# Altium footprint library Capacitor.PcbLib: 27 footprints (part 1 of 2)
Each footprint in its own frame and in the unit in brackets; x right, y up, seen from the top. Pads: shape width x height; smd on the part's side, far side on the other; paste and mask are expansions set on the pad; w line width, h text height; cw(c..) or ccw(c..) is an arc to the next point about the centre after c.
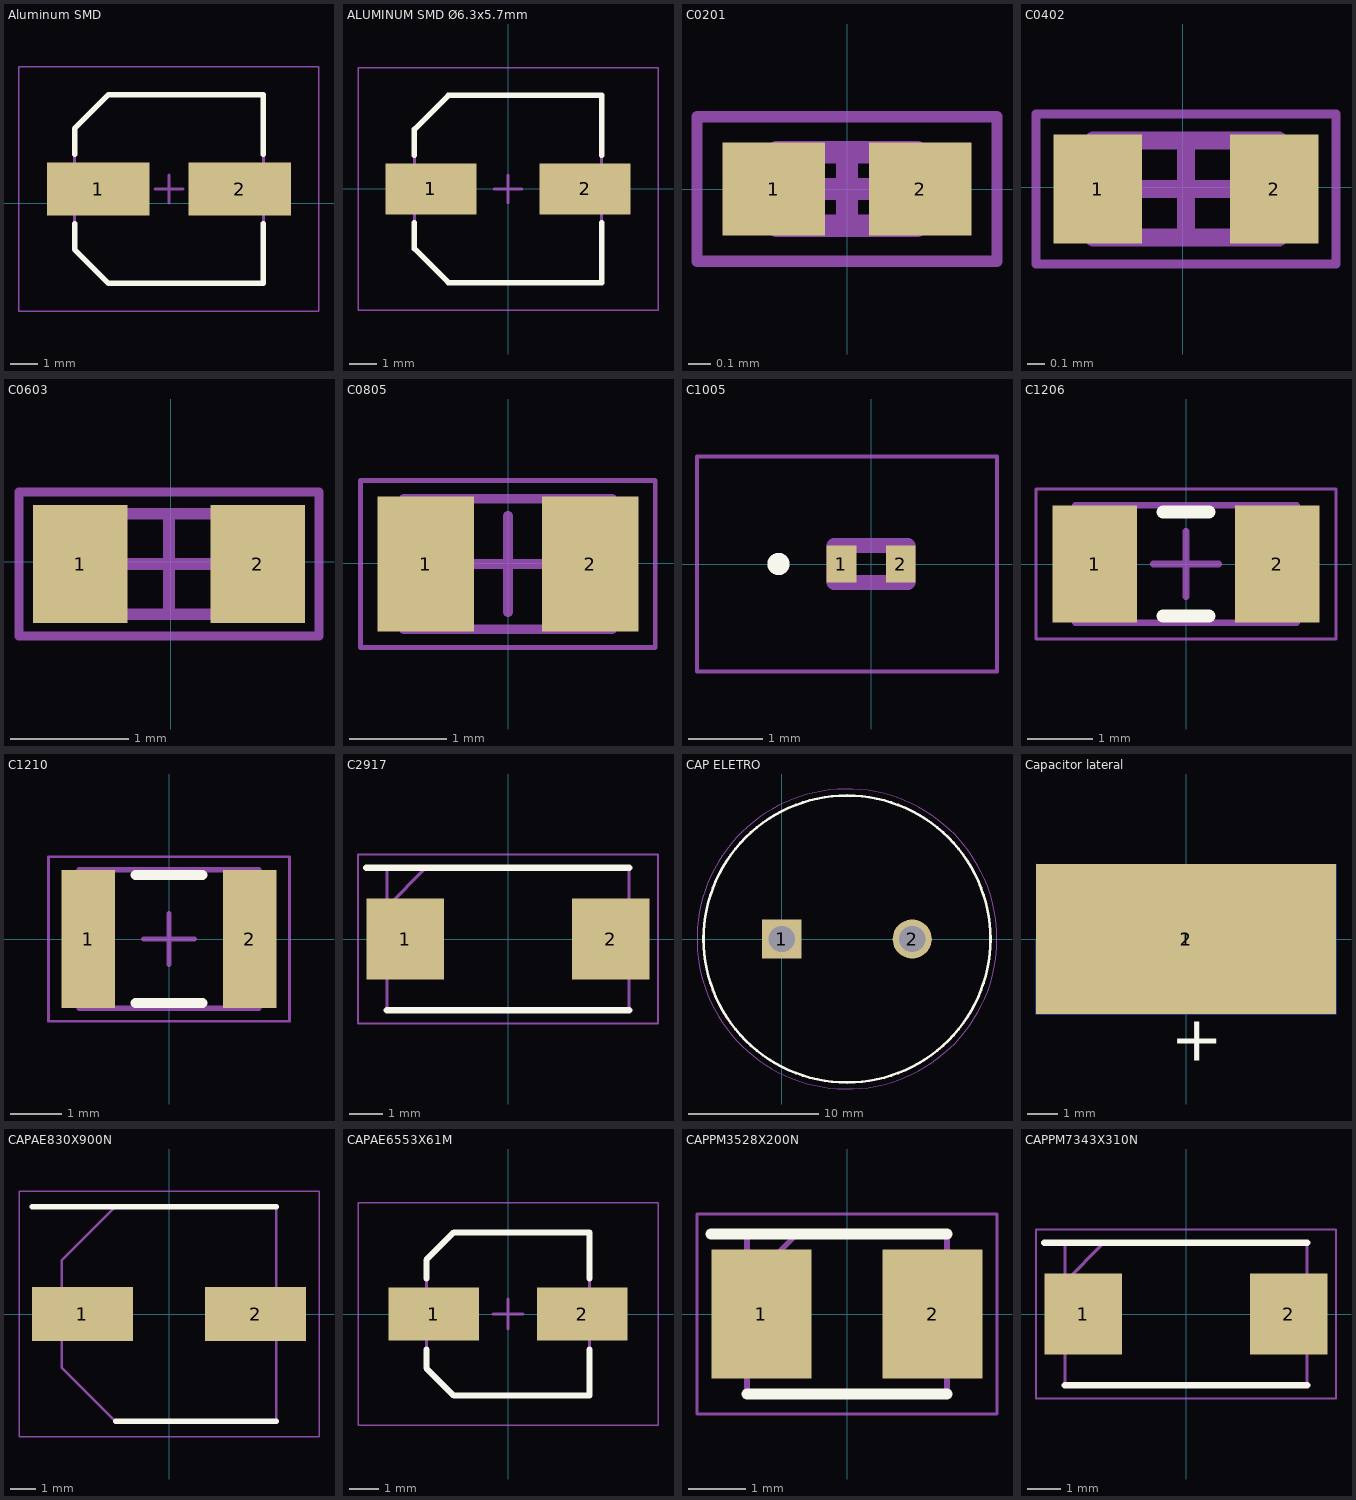
[diagram p0: the footprints below, top view; thin cyan lines are the x and y axes]

## Aluminum SMD [mm]
pads (2):
  rect 3.7x1.9 smd: 1(-208.925,0.508) 2(-203.825,0.508)
Top Overlay:
  lines w0.2: -209.775,-0.742 -209.775,-1.667 -208.55,-2.892 -202.975,-2.892 -202.975,-0.742 ; -209.775,1.758 -209.775,2.683 -208.55,3.908 -202.975,3.908 -202.975,1.758
Mechanical 13:
  lines w0.1: -209.775,-1.667 -208.55,-2.892 -202.975,-2.892 -202.975,3.908 -208.55,3.908 -209.775,2.683 -209.775,-1.667
Mechanical 15:
  lines w0.05: -211.775,-3.892 -211.775,4.908 -200.975,4.908 -200.975,-3.892 -211.775,-3.892
  lines w0.1: -206.875,0.508 -205.875,0.508 ; -206.375,0.008 -206.375,1.008
3D body "CAPAE7266X61M.step": height 6.1, standoff -0.1, extent -209.975,-2.892 -202.775,3.908

## ALUMINUM SMD Ø6.3x5.7mm [mm] "Aluminum Electrolytic Capacitor, Body 6,70x6,70x5,80mm, IPC Low Density"
height 5.8
pads (2):
  rect 3.3x1.85 smd: 1(-2.8,0) 2(2.8,0)
Top Overlay:
  lines w0.2: -3.4,-1.225 -3.4,-2.163 -2.163,-3.4 3.4,-3.4 3.4,-1.225 ; -3.4,1.225 -3.4,2.163 -2.163,3.4 3.4,3.4 3.4,1.225
Mechanical 13:
  lines w0.1: -3.4,-2.163 -3.4,2.163 -2.163,3.4 3.4,3.4 3.4,-3.4 -2.163,-3.4 -3.4,-2.163
Mechanical 15:
  lines w0.05: -5.45,-4.4 5.45,-4.4 5.45,4.4 -5.45,4.4 -5.45,-4.4
  lines w0.1: -0.5,0 0.5,0 ; 0,-0.5 0,0.5
3D body "CAPAE7367X58M.step": height 5.8, standoff -0.4, extent -3.65,-3.4 3.65,3.4

## C0201 [mm]
height 0.33
pads (2):
  rect 0.46x0.42 smd: 1(-0.33,0) 2(0.33,0)
Mechanical 13:
  lines w0.1: -0.315,-0.165 0.315,-0.165 0.315,0.165 -0.315,0.165 -0.315,-0.165
Mechanical 15:
  lines w0.05: -0.675,-0.325 0.675,-0.325 0.675,0.325 -0.675,0.325 -0.675,-0.325
  lines w0.1: -0.165,0 0.165,0 ; 0,-0.165 0,0.165
3D body "C0201.step": height 0.33, standoff 0, extent -0.315,-0.165 0.315,0.165

## C0402 [mm]
pads (2):
  rect 0.5x0.62 smd: 1(-0.483,-0.01) 2(0.517,-0.01)
Mechanical 13:
  lines w0.1: -0.508,-0.285 -0.508,0.265 0.542,0.265 0.542,-0.285 -0.508,-0.285
Mechanical 15:
  lines w0.05: -0.833,-0.435 -0.833,0.415 0.867,0.415 0.867,-0.435 -0.833,-0.435
  lines w0.1: -0.258,-0.01 0.292,-0.01 ; 0.017,-0.285 0.017,0.265
3D body "Chip2PinSM127P600-8N.step": height 0.37, standoff 0, extent -0.508,-0.285 0.542,0.265

## C0603 [mm]
pads (2):
  rect 0.8x1 smd: 1(-0.763,-0.018) 2(0.737,-0.018)
Mechanical 13:
  lines w0.1: -0.788,-0.443 0.762,-0.443 0.762,0.407 -0.788,0.407 -0.788,-0.443
Mechanical 15:
  lines w0.08: 1.232,-0.628 -1.283,-0.628 -1.283,0.592 1.232,0.592 ; 1.257,-0.628 1.257,0.592
  lines w0.1: -0.438,-0.018 0.412,-0.018 ; -0.013,-0.443 -0.013,0.407
3D body "Capacitor 0603.step": height 0.8, standoff 0, extent -0.863,-0.486 0.837,0.414

## C0805 [mm]
pads (2):
  rect 1x1.4 smd: 1(-0.85,-0.008) 2(0.85,-0.008)
Mechanical 13:
  lines w0.1: -1.075,-0.683 -1.075,0.667 1.075,0.667 1.075,-0.683 -1.075,-0.683
Mechanical 15:
  lines w0.05: -1.524,-0.872 -1.524,0.856 1.522,0.856 1.522,0.467 1.522,-0.483 1.522,-0.872 0.761,-0.872 -0.762,-0.872 -1.524,-0.872
  lines w0.1: -0.5,-0.008 0.5,-0.008 ; 0,-0.508 0,0.492
3D body "capacitor 0805.step": height 0.9, standoff 0, extent -1.075,-0.683 1.075,0.667

## C1005 [mm]
pads (2):
  rect 0.4x0.5 smd: 1(-0.4,0) 2(0.4,0)
Top Overlay:
  circle w0.2: c-1.25,0 r0.05
Mechanical 13:
  lines w0.2: -0.5,-0.25 0.5,-0.25 0.5,0.25 -0.5,0.25 -0.5,-0.25
Mechanical 15:
  lines w0.05: -2.35,-1.45 1.7,-1.45 1.7,1.45 -2.35,1.45 -2.35,-1.45
3D body "C1005X6S1C105K050BC.stp": height 0.65, standoff 0, extent -0.56,-0.25 0.56,0.25

## C1206 [mm]
height 2
pads (2):
  rect 1.3x1.8 smd: 1(-1.4,0) 2(1.4,0)
Top Overlay:
  lines w0.2: -0.35,-0.8 0.35,-0.8 ; -0.35,0.8 0.35,0.8
Mechanical 13:
  lines w0.1: -1.7,-0.9 1.7,-0.9 1.7,0.9 -1.7,0.9 -1.7,-0.9
Mechanical 15:
  lines w0.05: -2.3,-1.15 2.3,-1.15 2.3,1.15 -2.3,1.15 -2.3,-1.15
  lines w0.1: -0.5,0 0.5,0 ; 0,-0.5 0,0.5
3D body "1206.step": height 2, standoff 0, extent -1.7,-0.9 1.7,0.9

## C1210 [mm]
height 2.2
pads (2):
  rect 1.05x2.7 smd: 1(-1.575,0) 2(1.575,0)
Top Overlay:
  lines w0.2: -0.65,-1.25 0.65,-1.25 ; -0.65,1.25 0.65,1.25
Mechanical 13:
  lines w0.1: -1.75,-1.35 1.75,-1.35 1.75,1.35 -1.75,1.35 -1.75,-1.35
Mechanical 15:
  lines w0.05: -2.35,-1.6 2.35,-1.6 2.35,1.6 -2.35,1.6 -2.35,-1.6
  lines w0.1: -0.5,0 0.5,0 ; 0,-0.5 0,0.5
3D body "1210.step": height 2.2, standoff 0, extent -1.75,-1.35 1.75,1.35

## C2917 [mm]
pads (2):
  rect 2.35x2.45 smd: 1(-3.1,0) 2(3.1,0)
Top Overlay:
  lines w0.2: -4.275,2.15 3.65,2.15 ; -3.65,-2.15 3.65,-2.15
Mechanical 13:
  lines w0.1: -3.65,0.975 -2.475,2.15 ; -3.65,-2.15 3.65,-2.15 3.65,2.15 -3.65,2.15 -3.65,-2.15
Mechanical 15:
  lines w0.05: -4.525,-2.55 4.525,-2.55 4.525,2.55 -4.525,2.55 -4.525,-2.55
3D body "T495X476K035ATAUTO.stp": height 3.1, standoff 0, extent -3.65,-2.15 3.65,2.15

## CAP ELETRO [mm]
pads (2):
  rect 3x3 hole 2: 1(0,0)
  round 3 hole 2: 2(10,0)
Top Overlay:
  circle w0.2: c5,0 r11
Mechanical 13:
  circle w0.1: c5,0 r11
Mechanical 15:
  circle w0.05: c5,0 r11.5
3D body "861140783006.stp": height 37, standoff -10, extent -6.5,-11.5 16.5,11.5

## Capacitor lateral [mm]
pads (2):
  rect 10x5 smd: 1(0,0)
  rect 10x5 smd far side: 2(0,0)
Top Overlay:
  text "+" at -0.508,-4.064 h1.52
Bottom Overlay:
  text "-" at -0.508,-4.064 h1.52
3D body "ECA2GM100.STEP": height 4.98, standoff -5, extent -4.997,-14.333 4.997,22.667

## CAPAE830X900N [mm]
pads (2):
  rect 3.9x2.1 smd: 1(-3.35,0) 2(3.35,0)
Top Overlay:
  lines w0.2: -5.3,4.15 4.15,4.15 ; -2.075,-4.15 4.15,-4.15
Mechanical 13:
  lines w0.1: -4.15,-2.075 -2.075,-4.15 4.15,-4.15 4.15,4.15 -2.075,4.15 -4.15,2.075 -4.15,-2.075
Mechanical 15:
  lines w0.05: -5.8,-4.75 -5.8,4.75 5.8,4.75 5.8,-4.75 -5.8,-4.75
3D body "875116152001.stp": height 9, standoff 0, extent -4.6,-4.25 4.6,4.25

## CAPAE6553X61M [mm] "Aluminum Electrolytic Capacitor, Body 5,30x5,30x6,10mm, IPC Low Density"
height 6.1
pads (2):
  rect 3.05x1.8 smd: 1(-2.5,0) 2(2.5,0)
Top Overlay:
  lines w0.2: -2.75,-1.2 -2.75,-1.825 -1.825,-2.75 2.75,-2.75 2.75,-1.2 ; -2.75,1.2 -2.75,1.825 -1.825,2.75 2.75,2.75 2.75,1.2
Mechanical 13:
  lines w0.1: -2.75,-1.825 -1.825,-2.75 2.75,-2.75 2.75,2.75 -1.825,2.75 -2.75,1.825 -2.75,-1.825
Mechanical 15:
  lines w0.05: -5.05,-3.75 -5.05,3.75 5.05,3.75 5.05,-3.75 -5.05,-3.75
  lines w0.1: -0.5,0 0.5,0 ; 0,-0.5 0,0.5
3D body: height 2.04, standoff 0, extent -2.75,-2.75 2.75,2.75
3D body: height 6.1, standoff 0, extent -2.75,-2.75 2.75,2.75

## CAPPM3528X200N [mm]
pads (2):
  rect 1.75x2.25 smd: 1(-1.5,0) 2(1.5,0)
Top Overlay:
  lines w0.2: -2.375,1.4 1.75,1.4 ; -1.75,-1.4 1.75,-1.4
Mechanical 13:
  lines w0.1: -1.75,0.525 -0.875,1.4 ; -1.75,-1.4 1.75,-1.4 1.75,1.4 -1.75,1.4 -1.75,-1.4
Mechanical 15:
  lines w0.05: -2.625,-1.75 2.625,-1.75 2.625,1.75 -2.625,1.75 -2.625,-1.75
3D body "25TQC15MYFB.stp": height 1.9, standoff 0, extent -1.75,-1.397 1.75,1.403

## CAPPM7343X310N [mm] "CAP POL TAN 47uF 16V 10% 2917"
pads (2):
  rect 2.35x2.45 smd: 1(-3.1,0) 2(3.1,0)
Top Overlay:
  lines w0.2: -4.275,2.15 3.65,2.15 ; -3.65,-2.15 3.65,-2.15
Mechanical 15:
  lines w0.1: -3.65,0.975 -2.475,2.15 ; -3.65,-2.15 3.65,-2.15 3.65,2.15 -3.65,2.15 -3.65,-2.15
Mechanical 20:
  lines w0.05: -4.525,-2.55 4.525,-2.55 4.525,2.55 -4.525,2.55 -4.525,-2.55
3D body "293D476X9016D2TE3.stp": height 2.97, standoff 0.05, extent -3.594,-2.384 3.594,2.032